# Altium footprint library Sigma Design.PcbLib: 1 footprints
Each footprint in its own frame and in the unit in brackets; x right, y up, seen from the top. Pads: shape width x height; smd on the part's side, far side on the other; paste and mask are expansions set on the pad; w line width, h text height; cw(c..) or ccw(c..) is an arc to the next point about the centre after c.
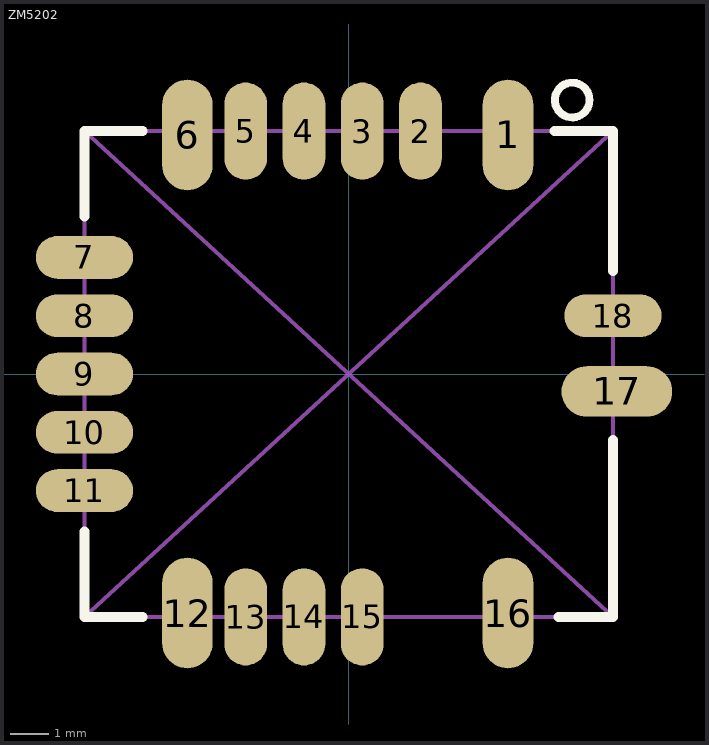
[diagram p0: the footprint, top view; thin cyan lines are the x and y axes]

## ZM5202 [mm] "ZM5202"
height 2
pads (18):
  oval 1.3x2.85 smd: 1(4.1,6.15) 6(-4.15,6.15) 12(-4.15,-6.15) 16(4.1,-6.15)
  oval 1.1x2.5 smd: 2(1.85,6.25) 3(0.35,6.25) 4(-1.15,6.25) 5(-2.65,6.25) 13(-2.65,-6.25) 14(-1.15,-6.25) 15(0.35,-6.25)
  oval 2.5x1.1 smd: 7(-6.8,3) 8(-6.8,1.5) 9(-6.8,0) 10(-6.8,-1.5) 11(-6.8,-3) 18(6.8,1.5)
  oval 2.85x1.3 smd: 17(6.9,-0.45)
Top Overlay:
  circle w0.2: c5.753,7.05 r0.447
  lines w0.254: -6.8,-4.05 -6.8,-6.25 -5.3,-6.25 ; -6.8,4.05 -6.8,6.25 -5.3,6.25 ; 5.3,6.25 6.8,6.25 6.8,2.65 ; 5.4,-6.25 6.8,-6.25 6.8,-1.7
Mechanical 15:
  lines w0.1: -6.8,-6.25 -6.8,6.25 ; -6.8,-6.25 6.8,-6.25 ; -6.8,-6.25 6.8,6.25 ; -6.8,6.25 6.8,6.25 ; -6.8,6.25 6.8,-6.25 ; 6.8,-6.25 6.8,6.25
3D body: height 2, standoff 0, extent -6.8,-6.25 6.8,6.25